# EAGLE library part CYWUSB6934 (library cypress)
WirelessUSB LS 2.4 GHz DSSS Radio SoC Source: http://v4.cypress.com/cfuploads/img/products/cywusb6934.pdf
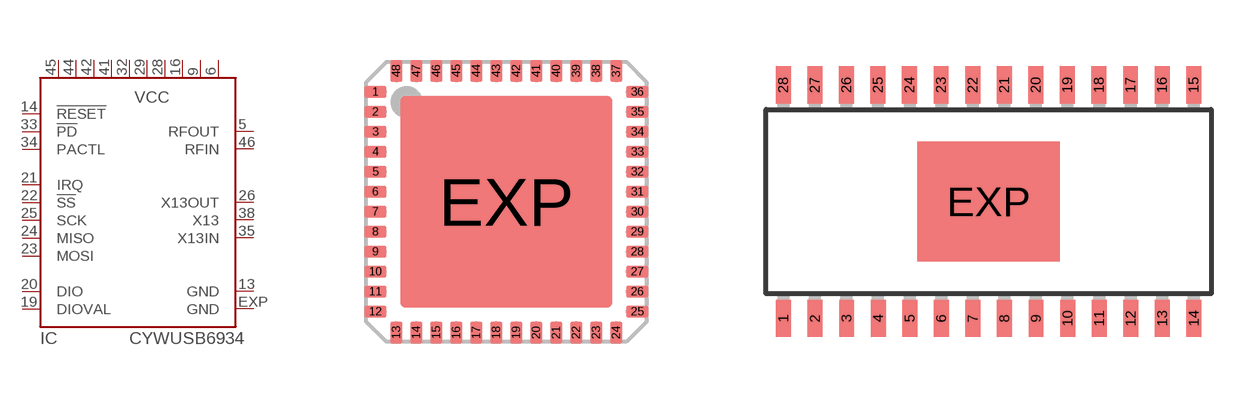
[diagram p23: symbol with the pads of QFN48; footprints QFN48, SOIC28-EPAD]

Designator prefix IC

## CYWUSB6934-48LFG (OC_FARNELL: unknown; OC_NEWARK: unknown)  [QFN48]
5  RFOUT  out
6  VCC  pwr
9  VCC  pwr
13  GND  pwr
14  !RESET  in
16  VCC  pwr
19  DIOVAL
20  DIO
21  IRQ  hiz
22  !SS  in
23  MOSI  in
24  MISO  hiz
25  SCK  in
26  X13OUT  out
28  VCC  pwr
29  VCC  pwr
32  VCC  pwr
33  !PD  in
34  PACTL
35  X13IN  in
38  X13  in
41  VCC  pwr
42  VCC  pwr
44  VCC  pwr
45  VCC  pwr
46  RFIN  in
EXP  GND  pwr

## CYWUSB6934-SE28 (OC_FARNELL: unknown; OC_NEWARK: unknown)  [SOIC28-EPAD]
1  VCC  pwr
2  VCC  pwr
3  RFIN  in
6  RFOUT  out
7  VCC  pwr
8  VCC  pwr
9  GND  pwr
10  !RESET  in
11  VCC  pwr
12  DIOVAL
13  DIO
14  IRQ  hiz
15  !SS  in
16  MOSI  in
17  MISO  hiz
18  SCK  in
19  X13OUT  out
20  VCC  pwr
21  VCC  pwr
22  VCC  pwr
23  !PD  in
24  PACTL
25  X13IN  in
26  X13  in
27  VCC  pwr
28  VCC  pwr
EXP  GND  pwr

## Footprint QFN48 (pad centres in mm)
48-pin QFN 7 x 7 mm LF48 48 Quad Flat Package No Leads Source: http://v4.cypress.com/cfuploads/img/products/cywusb6934.pdf
smd 0.55 x 0.3: 1 -3.275,2.75; 2 -3.275,2.25; 3 -3.275,1.75; 4 -3.275,1.25; 5 -3.275,0.75; 6 -3.275,0.25; 7 -3.275,-0.25; 8 -3.275,-0.75; 9 -3.275,-1.25; 10 -3.275,-1.75; 11 -3.275,-2.25; 12 -3.275,-2.75; 25 3.275,-2.75; 26 3.275,-2.25; 27 3.275,-1.75; 28 3.275,-1.25; 29 3.275,-0.75; 30 3.275,-0.25; 31 3.275,0.25; 32 3.275,0.75; 33 3.275,1.25; 34 3.275,1.75; 35 3.275,2.25; 36 3.275,2.75
smd 0.3 x 0.55: 13 -2.75,-3.275; 14 -2.25,-3.275; 15 -1.75,-3.275; 16 -1.25,-3.275; 17 -0.75,-3.275; 18 -0.25,-3.275; 19 0.25,-3.275; 20 0.75,-3.275; 21 1.25,-3.275; 22 1.75,-3.275; 23 2.25,-3.275; 24 2.75,-3.275; 37 2.75,3.275; 38 2.25,3.275; 39 1.75,3.275; 40 1.25,3.275; 41 0.75,3.275; 42 0.25,3.275; 43 -0.25,3.275; 44 -0.75,3.275; 45 -1.25,3.275; 46 -1.75,3.275; 47 -2.25,3.275; 48 -2.75,3.275
smd 5.309 x 5.309: EXP 0,0

## Footprint SOIC28-EPAD (pad centres in mm)
28-pin (300-Mil) SOIC EPAD SE28.3 Source: http://v4.cypress.com/cfuploads/img/products/cywusb6934.pdf
smd 0.6 x 1.5: 1 -8.25,-4.7; 2 -6.98,-4.7; 3 -5.71,-4.7; 4 -4.44,-4.7; 5 -3.17,-4.7; 6 -1.9,-4.7; 7 -0.63,-4.7; 8 0.64,-4.7; 9 1.91,-4.7; 10 3.18,-4.7; 11 4.45,-4.7; 12 5.72,-4.7; 13 6.99,-4.7; 14 8.26,-4.7; 15 8.25,4.7; 16 6.98,4.7; 17 5.71,4.7; 18 4.44,4.7; 19 3.17,4.7; 20 1.9,4.7; 21 0.63,4.7; 22 -0.64,4.7; 23 -1.91,4.7; 24 -3.18,4.7; 25 -4.45,4.7; 26 -5.72,4.7; 27 -6.99,4.7; 28 -8.26,4.7
smd 5.715 x 4.826: EXP 0,0